# Altium schematic symbol library lib_allegro.SchLib: 1 symbol
Pins are listed as number, name and electrical type; pins without a type are passive.

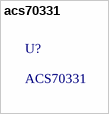
[diagram p0: symbol acs70331]

## acs70331
designator U?, comment ACS70331
High Sensitivity, 1 MHz, GMR-Based Current Sensor IC / in Space-Saving Low Resistance QFN package